# Altium schematic symbol library rf-transformer.SchLib: 1 symbol
Pins are listed as number, name and electrical type; pins without a type are passive.

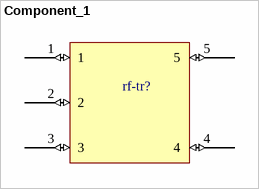
[diagram p0: symbol Component_1]

## Component_1
designator rf-tr?
RF-transformer
footprint RF-transformer (RF-transformer SMD)
pins: 1 (io), 2 (io), 3 (io), 4 (io), 5 (io)